# Altium schematic symbol library AP2127K-4.SCHLIB: 1 symbol
Pins are listed as number, name and electrical type; pins without a type are passive.

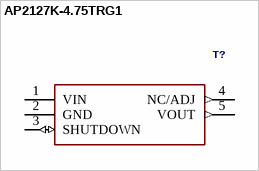
[diagram p0: symbol AP2127K-4.75TRG1]

## AP2127K-4.75TRG1
designator T?
LDO Voltage Regulators 300mA CMOS LDO 2.5V to 6VSource:  Datasheet; Manufacturer_Name: Diodes Inc.; GateName_1: G$1; SymbolName_1: AP2127K-4.75TRG1; LibraryName: AP2127K-4.75TRG1; DeviceSetName: AP2127K-4.75TRG1; Package: SOT95P282X145-5N; Manufacturer_Part_Number: AP2127K-4.75TRG1; Height: 1.45mm
footprint SOT95P282X145-5N
pins: 1 VIN (power), 2 GND (power), 3 SHUTDOWN (io), 4 NC/ADJ (out), 5 VOUT (out)